# Altium footprint library TJA1120AHN_0J.PcbLib: 2 footprints
Each footprint in its own frame and in the unit in brackets; x right, y up, seen from the top. Pads: shape width x height; smd on the part's side, far side on the other; paste and mask are expansions set on the pad; w line width, h text height; cw(c..) or ccw(c..) is an arc to the next point about the centre after c.
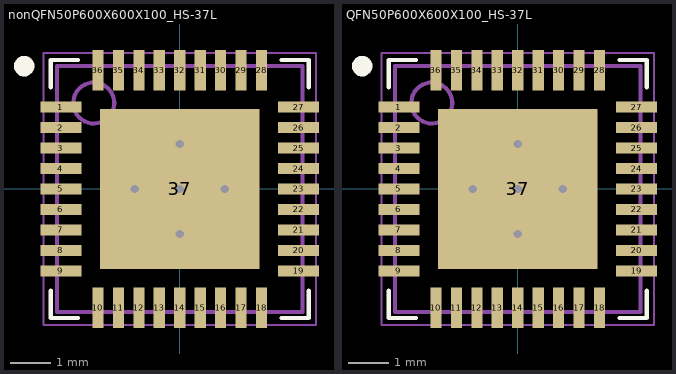
[diagram p0: the footprints below, top view; thin cyan lines are the x and y axes]

## nonQFN50P600X600X100_HS-37L [mm] "QFN, 36-Leads, Body 6,00x6,00mm, Pitch 0,50mm, Thermal Pad 3,90x3,90mm, IPC High Density"
height 1
pads (37):
  rect 1x0.27 smd mask+0.05: 1(-2.9,2) 2(-2.9,1.5) 3(-2.9,1) 4(-2.9,0.5) 5(-2.9,0) 6(-2.9,-0.5) 7(-2.9,-1) 8(-2.9,-1.5) 9(-2.9,-2) 19(2.9,-2) 20(2.9,-1.5) 21(2.9,-1) 22(2.9,-0.5) 23(2.9,0) 24(2.9,0.5) 25(2.9,1) 26(2.9,1.5) 27(2.9,2)
  rect 0.27x1 smd mask+0.05: 10(-2,-2.9) 11(-1.5,-2.9) 12(-1,-2.9) 13(-0.5,-2.9) 14(0,-2.9) 15(0.5,-2.9) 16(1,-2.9) 17(1.5,-2.9) 18(2,-2.9) 28(2,2.9) 29(1.5,2.9) 30(1,2.9) 31(0.5,2.9) 32(0,2.9) 33(-0.5,2.9) 34(-1,2.9) 35(-1.5,2.9) 36(-2,2.9)
  rect 3.9x3.9 smd paste-2539.97 mask+0.05: 37(0,0)
via 0,1.1 diameter 0.5 hole 0.2
via -1.1,0 diameter 0.5 hole 0.2
via 0,0 diameter 0.5 hole 0.2
via 1.1,0 diameter 0.5 hole 0.2
via 0,-1.1 diameter 0.5 hole 0.2
Top Overlay:
  circle w0.25: c-3.8,3 r0.125
  lines w0.1: -3.15,-2.485 -3.15,-3.15 -2.485,-3.15 ; -3.15,2.485 -3.15,3.15 -2.485,3.15 ; 2.485,-3.15 3.15,-3.15 3.15,-2.485 ; 2.485,3.15 3.15,3.15 3.15,2.485
Top Paste:
  region: 0.15,-1.8 1.8,-1.8 1.8,-0.15 0.15,-0.15
  region: -1.8,-1.8 -0.15,-1.8 -0.15,-0.15 -1.8,-0.15
  region: 0.15,0.15 0.15,1.8 1.8,1.8 1.8,0.15
  region: -1.8,0.15 -1.8,1.8 -0.15,1.8 -0.15,0.15
Top Assembly:
  circle w0.1: c-2.1,2.1 r0.5
  lines w0.1: -3,-3 3,-3 3,3 -3,3 -3,-3
Top Courtyard (Mech15):
  lines w0.05: -3.325,-3.325 3.325,-3.325 3.325,3.325 -3.325,3.325 -3.325,-3.325
  lines w0.1: -0.5,0 0.5,0 ; 0,-0.5 0,0.5
3D body "QFN50P600X600X100_HS-37L.step": height 1, standoff 0, extent -3.05,-3.05 3.05,3.05

## QFN50P600X600X100_HS-37L [mm] "QFN, 36-Leads, Body 6,00x6,00mm, Pitch 0,50mm, Thermal Pad 3,90x3,90mm, IPC High Density"
height 1
pads (37):
  rect 1x0.27 smd mask+0.05: 1(-2.9,2) 2(-2.9,1.5) 3(-2.9,1) 4(-2.9,0.5) 5(-2.9,0) 6(-2.9,-0.5) 7(-2.9,-1) 8(-2.9,-1.5) 9(-2.9,-2) 19(2.9,-2) 20(2.9,-1.5) 21(2.9,-1) 22(2.9,-0.5) 23(2.9,0) 24(2.9,0.5) 25(2.9,1) 26(2.9,1.5) 27(2.9,2)
  rect 0.27x1 smd mask+0.05: 10(-2,-2.9) 11(-1.5,-2.9) 12(-1,-2.9) 13(-0.5,-2.9) 14(0,-2.9) 15(0.5,-2.9) 16(1,-2.9) 17(1.5,-2.9) 18(2,-2.9) 28(2,2.9) 29(1.5,2.9) 30(1,2.9) 31(0.5,2.9) 32(0,2.9) 33(-0.5,2.9) 34(-1,2.9) 35(-1.5,2.9) 36(-2,2.9)
  rect 3.9x3.9 smd paste-2539.97 mask+0.05: 37(0,0)
via 0,-1.1 diameter 0.5 hole 0.2
via 1.1,0 diameter 0.5 hole 0.2
via 0,0 diameter 0.5 hole 0.2
via -1.1,0 diameter 0.5 hole 0.2
via 0,1.1 diameter 0.5 hole 0.2
Top Overlay:
  circle w0.25: c-3.8,3 r0.125
  lines w0.1: -3.15,-2.485 -3.15,-3.15 -2.485,-3.15 ; -3.15,2.485 -3.15,3.15 -2.485,3.15 ; 2.485,-3.15 3.15,-3.15 3.15,-2.485 ; 2.485,3.15 3.15,3.15 3.15,2.485
Top Paste:
  region: -1.8,0.15 -1.8,1.8 -0.15,1.8 -0.15,0.15
  region: 0.15,0.15 0.15,1.8 1.8,1.8 1.8,0.15
  region: -1.8,-1.8 -0.15,-1.8 -0.15,-0.15 -1.8,-0.15
  region: 0.15,-1.8 1.8,-1.8 1.8,-0.15 0.15,-0.15
Top Assembly:
  circle w0.1: c-2.1,2.1 r0.5
  lines w0.1: -3,-3 -3,3 3,3 3,-3 -3,-3
Top Courtyard (Mech15):
  lines w0.05: -3.325,-3.325 -3.325,3.325 3.325,3.325 3.325,-3.325 -3.325,-3.325
  lines w0.1: -0.5,0 0.5,0 ; 0,-0.5 0,0.5
3D body "QFN50P600X600X100_HS-37L.step": height 1, standoff 0, extent -3.001,-3.001 3.001,3.001